# Altium schematic symbol library MCU_Microchip_SAML.SchLib: 20 symbols
Pins are listed as number, name and electrical type; pins without a type are passive.

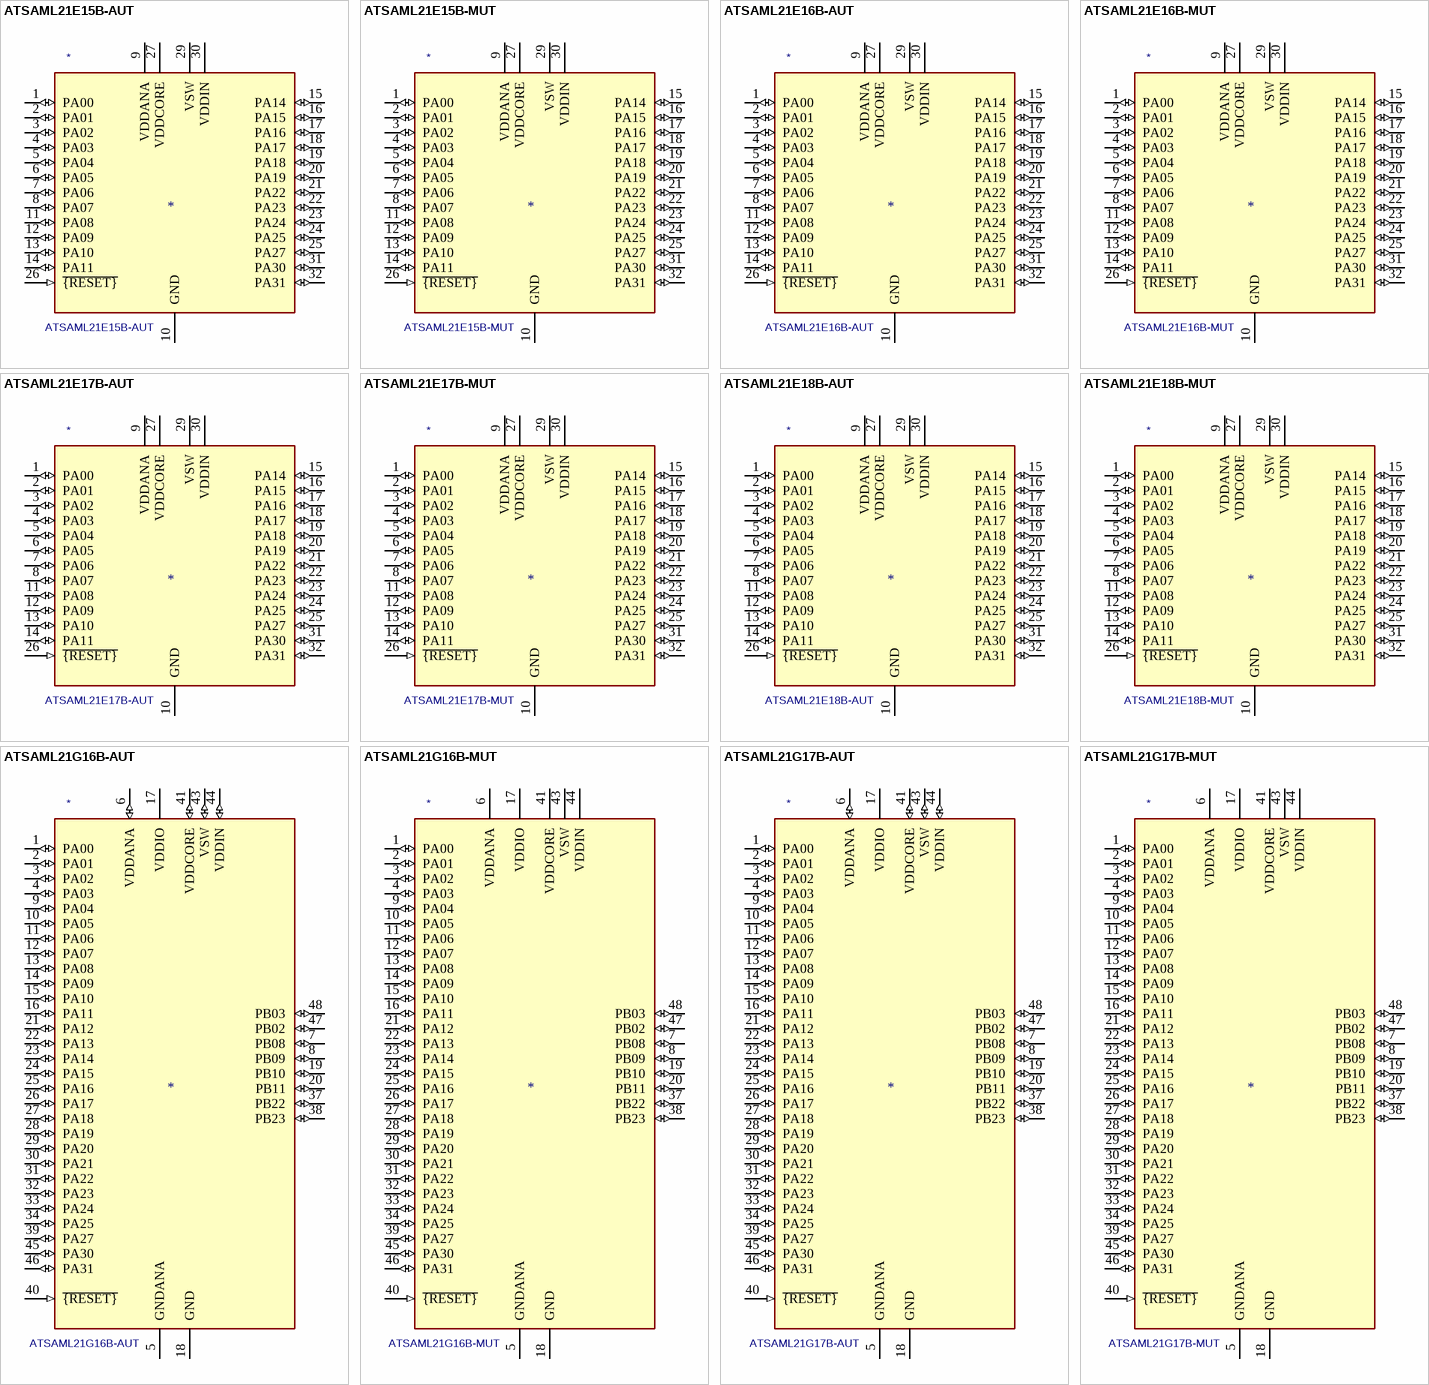
[diagram p0: symbols ATSAML21E15B-AUT to ATSAML21G17B-MUT]

## ATSAML21E15B-AUT
designator *  value ATSAML21E15B-AUT
ki_keywords: 32-bit ARM Cortex-M0+ MCU Microcontroller; ki_description: SAM L21 Microchip SMART ARM-based Flash MCU, 48Mhz, 32K Flash, 4K SRAM, TQFP32; ki_fp_filters: TQFP*7x7mm*P0.8mm*; Footprint: Package_QFP:TQFP-32_7x7mm_P0.8mm; Supplier: http://ww1.microchip.com/downloads/en/DeviceDoc/60001477A.pdf
footprint TQFP-32_7x7mm_P0.8mm
pins: 1 PA00 (io), 2 PA01 (io), 3 PA02 (io), 4 PA03 (io), 5 PA04 (io), 6 PA05 (io), 7 PA06 (io), 8 PA07 (io), 9 VDDANA (power), 10 GND (power), 11 PA08 (io), 12 PA09 (io), 13 PA10 (io), 14 PA11 (io), 15 PA14 (io), 16 PA15 (io), 17 PA16 (io), 18 PA17 (io), 19 PA18 (io), 20 PA19 (io), 21 PA22 (io), 22 PA23 (io), 23 PA24 (io), 24 PA25 (io), 25 PA27 (io), 26 ~{{RESET}} (in), 27 VDDCORE (power), 28 GND hidden, 29 VSW (power), 30 VDDIN (power), 31 PA30 (io), 32 PA31 (io)

## ATSAML21E15B-MUT
designator *  value ATSAML21E15B-MUT
ki_keywords: 32-bit ARM Cortex-M0+ MCU Microcontroller; ki_description: SAM L21 Microchip SMART ARM-based Flash MCU, 48Mhz, 32K Flash, 4K SRAM, QFN32; ki_fp_filters: QFN*1EP*5x5mm*P0.5mm*; Footprint: Package_DFN_QFN:QFN-32-1EP_5x5mm_P0.5mm_EP3.45x3.45mm; Supplier: http://ww1.microchip.com/downloads/en/DeviceDoc/60001477A.pdf
footprint QFN-32-1EP_5x5mm_P0.5mm_EP3.45x3.45mm
pins: 1 PA00 (io), 2 PA01 (io), 3 PA02 (io), 4 PA03 (io), 5 PA04 (io), 6 PA05 (io), 7 PA06 (io), 8 PA07 (io), 9 VDDANA (power), 10 GND (power), 11 PA08 (io), 12 PA09 (io), 13 PA10 (io), 14 PA11 (io), 15 PA14 (io), 16 PA15 (io), 17 PA16 (io), 18 PA17 (io), 19 PA18 (io), 20 PA19 (io), 21 PA22 (io), 22 PA23 (io), 23 PA24 (io), 24 PA25 (io), 25 PA27 (io), 26 ~{{RESET}} (in), 27 VDDCORE (power), 28 GND hidden, 29 VSW (power), 30 VDDIN (power), 31 PA30 (io), 32 PA31 (io)

## ATSAML21E16B-AUT
designator *  value ATSAML21E16B-AUT
ki_keywords: 32-bit ARM Cortex-M0+ MCU Microcontroller; ki_description: SAM L21 Microchip SMART ARM-based Flash MCU, 48Mhz, 64K Flash, 8K SRAM, TQFP32; ki_fp_filters: TQFP*7x7mm*P0.8mm*; Footprint: Package_QFP:TQFP-32_7x7mm_P0.8mm; Supplier: http://ww1.microchip.com/downloads/en/DeviceDoc/60001477A.pdf
footprint TQFP-32_7x7mm_P0.8mm
pins: 1 PA00 (io), 2 PA01 (io), 3 PA02 (io), 4 PA03 (io), 5 PA04 (io), 6 PA05 (io), 7 PA06 (io), 8 PA07 (io), 9 VDDANA (power), 10 GND (power), 11 PA08 (io), 12 PA09 (io), 13 PA10 (io), 14 PA11 (io), 15 PA14 (io), 16 PA15 (io), 17 PA16 (io), 18 PA17 (io), 19 PA18 (io), 20 PA19 (io), 21 PA22 (io), 22 PA23 (io), 23 PA24 (io), 24 PA25 (io), 25 PA27 (io), 26 ~{{RESET}} (in), 27 VDDCORE (power), 28 GND hidden, 29 VSW (power), 30 VDDIN (power), 31 PA30 (io), 32 PA31 (io)

## ATSAML21E16B-MUT
designator *  value ATSAML21E16B-MUT
ki_keywords: 32-bit ARM Cortex-M0+ MCU Microcontroller; ki_description: SAM L21 Microchip SMART ARM-based Flash MCU, 48Mhz, 64K Flash, 8K SRAM, QFN32; ki_fp_filters: QFN*1EP*5x5mm*P0.5mm*; Footprint: Package_DFN_QFN:QFN-32-1EP_5x5mm_P0.5mm_EP3.45x3.45mm; Supplier: http://ww1.microchip.com/downloads/en/DeviceDoc/60001477A.pdf
footprint QFN-32-1EP_5x5mm_P0.5mm_EP3.45x3.45mm
pins: 1 PA00 (io), 2 PA01 (io), 3 PA02 (io), 4 PA03 (io), 5 PA04 (io), 6 PA05 (io), 7 PA06 (io), 8 PA07 (io), 9 VDDANA (power), 10 GND (power), 11 PA08 (io), 12 PA09 (io), 13 PA10 (io), 14 PA11 (io), 15 PA14 (io), 16 PA15 (io), 17 PA16 (io), 18 PA17 (io), 19 PA18 (io), 20 PA19 (io), 21 PA22 (io), 22 PA23 (io), 23 PA24 (io), 24 PA25 (io), 25 PA27 (io), 26 ~{{RESET}} (in), 27 VDDCORE (power), 28 GND hidden, 29 VSW (power), 30 VDDIN (power), 31 PA30 (io), 32 PA31 (io)

## ATSAML21E17B-AUT
designator *  value ATSAML21E17B-AUT
ki_keywords: 32-bit ARM Cortex-M0+ MCU Microcontroller; ki_description: SAM L21 Microchip SMART ARM-based Flash MCU, 48Mhz, 128K Flash, 16K SRAM, TQFP32; ki_fp_filters: TQFP*7x7mm*P0.8mm*; Footprint: Package_QFP:TQFP-32_7x7mm_P0.8mm; Supplier: http://ww1.microchip.com/downloads/en/DeviceDoc/60001477A.pdf
footprint TQFP-32_7x7mm_P0.8mm
pins: 1 PA00 (io), 2 PA01 (io), 3 PA02 (io), 4 PA03 (io), 5 PA04 (io), 6 PA05 (io), 7 PA06 (io), 8 PA07 (io), 9 VDDANA (power), 10 GND (power), 11 PA08 (io), 12 PA09 (io), 13 PA10 (io), 14 PA11 (io), 15 PA14 (io), 16 PA15 (io), 17 PA16 (io), 18 PA17 (io), 19 PA18 (io), 20 PA19 (io), 21 PA22 (io), 22 PA23 (io), 23 PA24 (io), 24 PA25 (io), 25 PA27 (io), 26 ~{{RESET}} (in), 27 VDDCORE (power), 28 GND hidden, 29 VSW (power), 30 VDDIN (power), 31 PA30 (io), 32 PA31 (io)

## ATSAML21E17B-MUT
designator *  value ATSAML21E17B-MUT
ki_keywords: 32-bit ARM Cortex-M0+ MCU Microcontroller; ki_description: SAM L21 Microchip SMART ARM-based Flash MCU, 48Mhz, 128K Flash, 16K SRAM, QFN32; ki_fp_filters: QFN*1EP*5x5mm*P0.5mm*; Footprint: Package_DFN_QFN:QFN-32-1EP_5x5mm_P0.5mm_EP3.45x3.45mm; Supplier: http://ww1.microchip.com/downloads/en/DeviceDoc/60001477A.pdf
footprint QFN-32-1EP_5x5mm_P0.5mm_EP3.45x3.45mm
pins: 1 PA00 (io), 2 PA01 (io), 3 PA02 (io), 4 PA03 (io), 5 PA04 (io), 6 PA05 (io), 7 PA06 (io), 8 PA07 (io), 9 VDDANA (power), 10 GND (power), 11 PA08 (io), 12 PA09 (io), 13 PA10 (io), 14 PA11 (io), 15 PA14 (io), 16 PA15 (io), 17 PA16 (io), 18 PA17 (io), 19 PA18 (io), 20 PA19 (io), 21 PA22 (io), 22 PA23 (io), 23 PA24 (io), 24 PA25 (io), 25 PA27 (io), 26 ~{{RESET}} (in), 27 VDDCORE (power), 28 GND hidden, 29 VSW (power), 30 VDDIN (power), 31 PA30 (io), 32 PA31 (io)

## ATSAML21E18B-AUT
designator *  value ATSAML21E18B-AUT
ki_keywords: 32-bit ARM Cortex-M0+ MCU Microcontroller; ki_description: SAM L21 Microchip SMART ARM-based Flash MCU, 48Mhz, 256K Flash, 32K SRAM, TQFP32; ki_fp_filters: TQFP*7x7mm*P0.8mm*; Footprint: Package_QFP:TQFP-32_7x7mm_P0.8mm; Supplier: http://ww1.microchip.com/downloads/en/DeviceDoc/60001477A.pdf
footprint TQFP-32_7x7mm_P0.8mm
pins: 1 PA00 (io), 2 PA01 (io), 3 PA02 (io), 4 PA03 (io), 5 PA04 (io), 6 PA05 (io), 7 PA06 (io), 8 PA07 (io), 9 VDDANA (power), 10 GND (power), 11 PA08 (io), 12 PA09 (io), 13 PA10 (io), 14 PA11 (io), 15 PA14 (io), 16 PA15 (io), 17 PA16 (io), 18 PA17 (io), 19 PA18 (io), 20 PA19 (io), 21 PA22 (io), 22 PA23 (io), 23 PA24 (io), 24 PA25 (io), 25 PA27 (io), 26 ~{{RESET}} (in), 27 VDDCORE (power), 28 GND hidden, 29 VSW (power), 30 VDDIN (power), 31 PA30 (io), 32 PA31 (io)

## ATSAML21E18B-MUT
designator *  value ATSAML21E18B-MUT
ki_keywords: 32-bit ARM Cortex-M0+ MCU Microcontroller; ki_description: SAM L21 Microchip SMART ARM-based Flash MCU, 48Mhz, 256K Flash, 32K SRAM, QFN32; ki_fp_filters: QFN*1EP*5x5mm*P0.5mm*; Footprint: Package_DFN_QFN:QFN-32-1EP_5x5mm_P0.5mm_EP3.45x3.45mm; Supplier: http://ww1.microchip.com/downloads/en/DeviceDoc/60001477A.pdf
footprint QFN-32-1EP_5x5mm_P0.5mm_EP3.45x3.45mm
pins: 1 PA00 (io), 2 PA01 (io), 3 PA02 (io), 4 PA03 (io), 5 PA04 (io), 6 PA05 (io), 7 PA06 (io), 8 PA07 (io), 9 VDDANA (power), 10 GND (power), 11 PA08 (io), 12 PA09 (io), 13 PA10 (io), 14 PA11 (io), 15 PA14 (io), 16 PA15 (io), 17 PA16 (io), 18 PA17 (io), 19 PA18 (io), 20 PA19 (io), 21 PA22 (io), 22 PA23 (io), 23 PA24 (io), 24 PA25 (io), 25 PA27 (io), 26 ~{{RESET}} (in), 27 VDDCORE (power), 28 GND hidden, 29 VSW (power), 30 VDDIN (power), 31 PA30 (io), 32 PA31 (io)

## ATSAML21G16B-AUT
designator *  value ATSAML21G16B-AUT
ki_keywords: 32-bit ARM Cortex-M0+ MCU Microcontroller; ki_description: SAM L21 Microchip SMART ARM-based Flash MCU, 48Mhz, 64K Flash, 8K SRAM, TQFP48; ki_fp_filters: TQFP*7x7mm*P0.5mm*; Footprint: Package_QFP:TQFP-48_7x7mm_P0.5mm; Supplier: http://ww1.microchip.com/downloads/en/DeviceDoc/60001477A.pdf
footprint TQFP-48_7x7mm_P0.5mm
pins: 1 PA00 (io), 2 PA01 (io), 3 PA02 (io), 4 PA03 (io), 5 GNDANA (power), 6 VDDANA (io), 7 PB08 (io), 8 PB09 (io), 9 PA04 (io), 10 PA05 (io), 11 PA06 (io), 12 PA07 (io), 13 PA08 (io), 14 PA09 (io), 15 PA10 (io), 16 PA11 (io), 17 VDDIO (power), 18 GND (power), 19 PB10 (io), 20 PB11 (io), 21 PA12 (io), 22 PA13 (io), 23 PA14 (io), 24 PA15 (io), 25 PA16 (io), 26 PA17 (io), 27 PA18 (io), 28 PA19 (io), 29 PA20 (io), 30 PA21 (io), 31 PA22 (io), 32 PA23 (io), 33 PA24 (io), 34 PA25 (io), 35 GND hidden, 36 VDDIO hidden, 37 PB22 (io), 38 PB23 (io), 39 PA27 (io), 40 ~{{RESET}} (in), 41 VDDCORE (io), 42 GND hidden, 43 VSW (io), 44 VDDIN (io), 45 PA30 (io), 46 PA31 (io), 47 PB02 (io), 48 PB03 (io)

## ATSAML21G16B-MUT
designator *  value ATSAML21G16B-MUT
ki_keywords: 32-bit ARM Cortex-M0+ MCU Microcontroller; ki_description: SAM L21 Microchip SMART ARM-based Flash MCU, 48Mhz, 64K Flash, 8K SRAM, QFN48; ki_fp_filters: QFN*1EP*7x7mm*P0.5mm*; Footprint: Package_DFN_QFN:QFN-48-1EP_7x7mm_P0.5mm_EP5.15x5.15mm; Supplier: http://ww1.microchip.com/downloads/en/DeviceDoc/60001477A.pdf
footprint QFN-48-1EP_7x7mm_P0.5mm_EP5.15x5.15mm
pins: 1 PA00 (io), 2 PA01 (io), 3 PA02 (io), 4 PA03 (io), 5 GNDANA (power), 6 VDDANA (power), 7 PB08 (io), 8 PB09 (io), 9 PA04 (io), 10 PA05 (io), 11 PA06 (io), 12 PA07 (io), 13 PA08 (io), 14 PA09 (io), 15 PA10 (io), 16 PA11 (io), 17 VDDIO (power), 18 GND (power), 19 PB10 (io), 20 PB11 (io), 21 PA12 (io), 22 PA13 (io), 23 PA14 (io), 24 PA15 (io), 25 PA16 (io), 26 PA17 (io), 27 PA18 (io), 28 PA19 (io), 29 PA20 (io), 30 PA21 (io), 31 PA22 (io), 32 PA23 (io), 33 PA24 (io), 34 PA25 (io), 35 GND hidden, 36 VDDIO hidden, 37 PB22 (io), 38 PB23 (io), 39 PA27 (io), 40 ~{{RESET}} (in), 41 VDDCORE (power), 42 GND hidden, 43 VSW (power), 44 VDDIN (power), 45 PA30 (io), 46 PA31 (io), 47 PB02 (io), 48 PB03 (io)

## ATSAML21G17B-AUT
designator *  value ATSAML21G17B-AUT
ki_keywords: 32-bit ARM Cortex-M0+ MCU Microcontroller; ki_description: SAM L21 Microchip SMART ARM-based Flash MCU, 48Mhz, 128K Flash, 16K SRAM, TQFP48; ki_fp_filters: TQFP*7x7mm*P0.5mm*; Footprint: Package_QFP:TQFP-48_7x7mm_P0.5mm; Supplier: http://ww1.microchip.com/downloads/en/DeviceDoc/60001477A.pdf
footprint TQFP-48_7x7mm_P0.5mm
pins: 1 PA00 (io), 2 PA01 (io), 3 PA02 (io), 4 PA03 (io), 5 GNDANA (power), 6 VDDANA (io), 7 PB08 (io), 8 PB09 (io), 9 PA04 (io), 10 PA05 (io), 11 PA06 (io), 12 PA07 (io), 13 PA08 (io), 14 PA09 (io), 15 PA10 (io), 16 PA11 (io), 17 VDDIO (power), 18 GND (power), 19 PB10 (io), 20 PB11 (io), 21 PA12 (io), 22 PA13 (io), 23 PA14 (io), 24 PA15 (io), 25 PA16 (io), 26 PA17 (io), 27 PA18 (io), 28 PA19 (io), 29 PA20 (io), 30 PA21 (io), 31 PA22 (io), 32 PA23 (io), 33 PA24 (io), 34 PA25 (io), 35 GND hidden, 36 VDDIO hidden, 37 PB22 (io), 38 PB23 (io), 39 PA27 (io), 40 ~{{RESET}} (in), 41 VDDCORE (io), 42 GND hidden, 43 VSW (io), 44 VDDIN (io), 45 PA30 (io), 46 PA31 (io), 47 PB02 (io), 48 PB03 (io)

## ATSAML21G17B-MUT
designator *  value ATSAML21G17B-MUT
ki_keywords: 32-bit ARM Cortex-M0+ MCU Microcontroller; ki_description: SAM L21 Microchip SMART ARM-based Flash MCU, 48Mhz, 128K Flash, 16K SRAM, QFN48; ki_fp_filters: QFN*1EP*7x7mm*P0.5mm*; Footprint: Package_DFN_QFN:QFN-48-1EP_7x7mm_P0.5mm_EP5.15x5.15mm; Supplier: http://ww1.microchip.com/downloads/en/DeviceDoc/60001477A.pdf
footprint QFN-48-1EP_7x7mm_P0.5mm_EP5.15x5.15mm
pins: 1 PA00 (io), 2 PA01 (io), 3 PA02 (io), 4 PA03 (io), 5 GNDANA (power), 6 VDDANA (power), 7 PB08 (io), 8 PB09 (io), 9 PA04 (io), 10 PA05 (io), 11 PA06 (io), 12 PA07 (io), 13 PA08 (io), 14 PA09 (io), 15 PA10 (io), 16 PA11 (io), 17 VDDIO (power), 18 GND (power), 19 PB10 (io), 20 PB11 (io), 21 PA12 (io), 22 PA13 (io), 23 PA14 (io), 24 PA15 (io), 25 PA16 (io), 26 PA17 (io), 27 PA18 (io), 28 PA19 (io), 29 PA20 (io), 30 PA21 (io), 31 PA22 (io), 32 PA23 (io), 33 PA24 (io), 34 PA25 (io), 35 GND hidden, 36 VDDIO hidden, 37 PB22 (io), 38 PB23 (io), 39 PA27 (io), 40 ~{{RESET}} (in), 41 VDDCORE (power), 42 GND hidden, 43 VSW (power), 44 VDDIN (power), 45 PA30 (io), 46 PA31 (io), 47 PB02 (io), 48 PB03 (io)

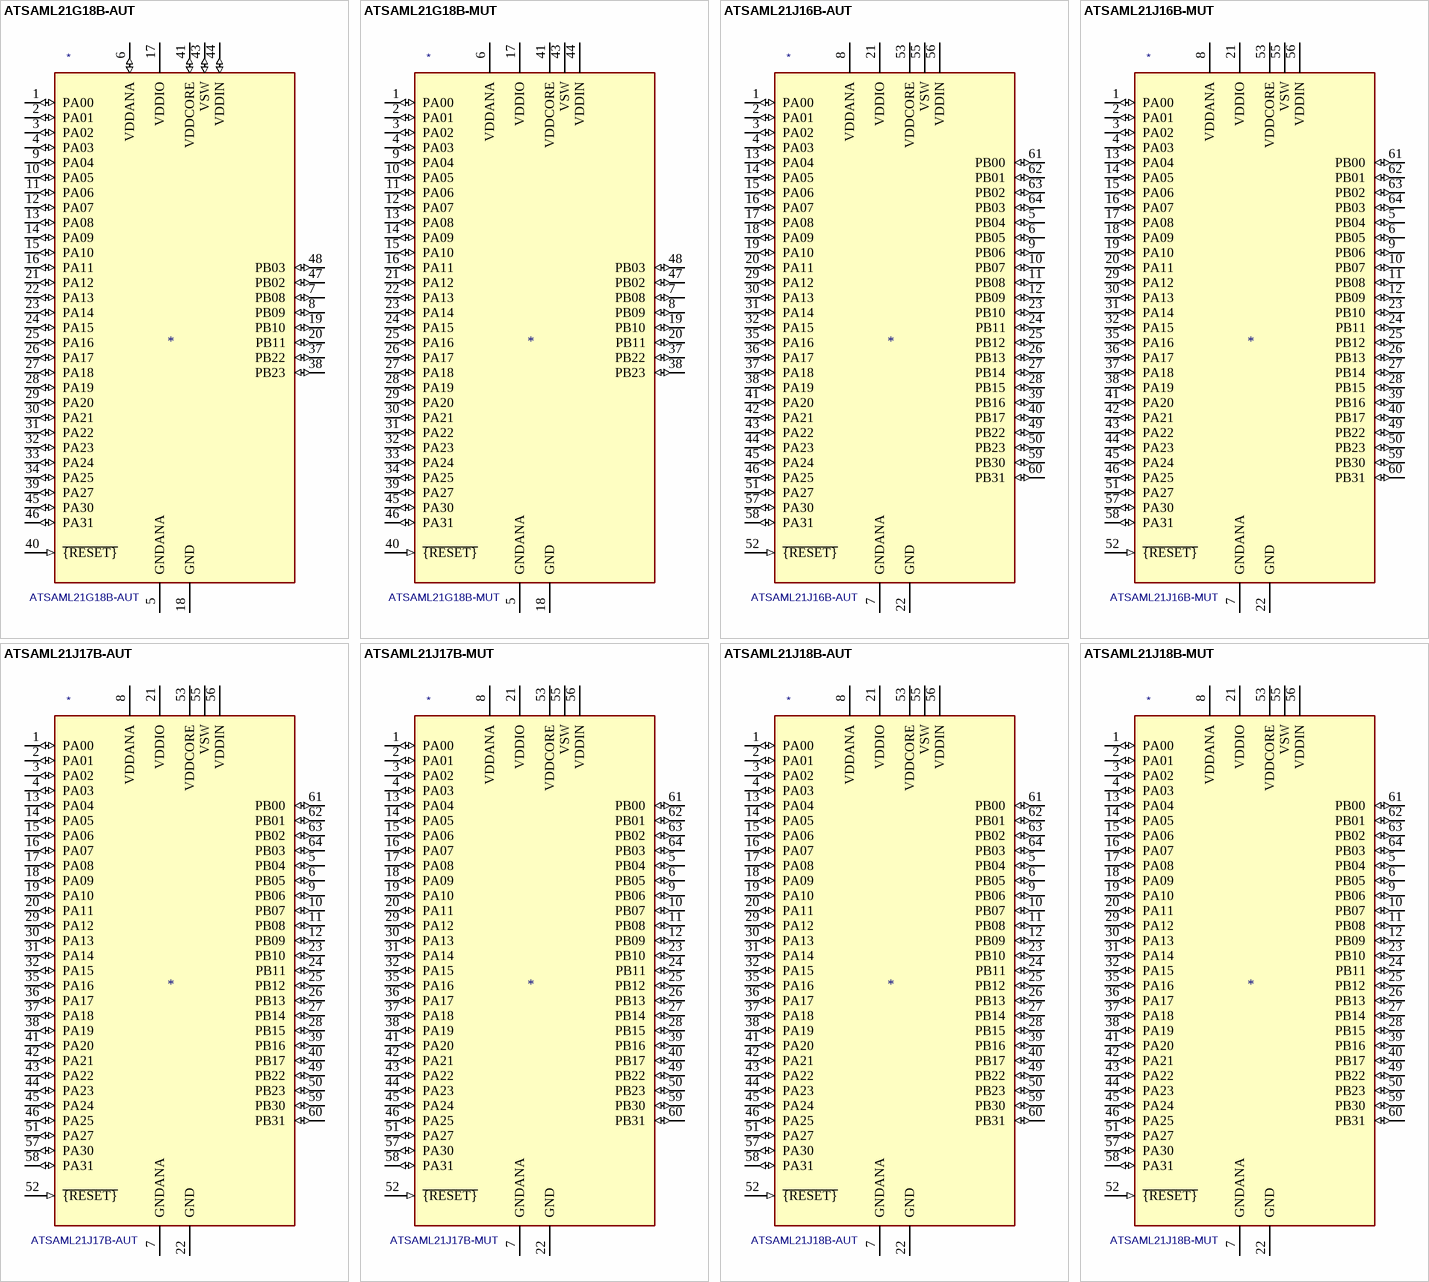
[diagram p1: symbols ATSAML21G18B-AUT to ATSAML21J18B-MUT]

## ATSAML21G18B-AUT
designator *  value ATSAML21G18B-AUT
ki_keywords: 32-bit ARM Cortex-M0+ MCU Microcontroller; ki_description: SAM L21 Microchip SMART ARM-based Flash MCU, 48Mhz, 256K Flash, 32K SRAM, TQFP48; ki_fp_filters: TQFP*7x7mm*P0.5mm*; Footprint: Package_QFP:TQFP-48_7x7mm_P0.5mm; Supplier: http://ww1.microchip.com/downloads/en/DeviceDoc/60001477A.pdf
footprint TQFP-48_7x7mm_P0.5mm
pins: 1 PA00 (io), 2 PA01 (io), 3 PA02 (io), 4 PA03 (io), 5 GNDANA (power), 6 VDDANA (io), 7 PB08 (io), 8 PB09 (io), 9 PA04 (io), 10 PA05 (io), 11 PA06 (io), 12 PA07 (io), 13 PA08 (io), 14 PA09 (io), 15 PA10 (io), 16 PA11 (io), 17 VDDIO (power), 18 GND (power), 19 PB10 (io), 20 PB11 (io), 21 PA12 (io), 22 PA13 (io), 23 PA14 (io), 24 PA15 (io), 25 PA16 (io), 26 PA17 (io), 27 PA18 (io), 28 PA19 (io), 29 PA20 (io), 30 PA21 (io), 31 PA22 (io), 32 PA23 (io), 33 PA24 (io), 34 PA25 (io), 35 GND hidden, 36 VDDIO hidden, 37 PB22 (io), 38 PB23 (io), 39 PA27 (io), 40 ~{{RESET}} (in), 41 VDDCORE (io), 42 GND hidden, 43 VSW (io), 44 VDDIN (io), 45 PA30 (io), 46 PA31 (io), 47 PB02 (io), 48 PB03 (io)

## ATSAML21G18B-MUT
designator *  value ATSAML21G18B-MUT
ki_keywords: 32-bit ARM Cortex-M0+ MCU Microcontroller; ki_description: SAM L21 Microchip SMART ARM-based Flash MCU, 48Mhz, 256K Flash, 32K SRAM, QFN48; ki_fp_filters: QFN*1EP*7x7mm*P0.5mm*; Footprint: Package_DFN_QFN:QFN-48-1EP_7x7mm_P0.5mm_EP5.15x5.15mm; Supplier: http://ww1.microchip.com/downloads/en/DeviceDoc/60001477A.pdf
footprint QFN-48-1EP_7x7mm_P0.5mm_EP5.15x5.15mm
pins: 1 PA00 (io), 2 PA01 (io), 3 PA02 (io), 4 PA03 (io), 5 GNDANA (power), 6 VDDANA (power), 7 PB08 (io), 8 PB09 (io), 9 PA04 (io), 10 PA05 (io), 11 PA06 (io), 12 PA07 (io), 13 PA08 (io), 14 PA09 (io), 15 PA10 (io), 16 PA11 (io), 17 VDDIO (power), 18 GND (power), 19 PB10 (io), 20 PB11 (io), 21 PA12 (io), 22 PA13 (io), 23 PA14 (io), 24 PA15 (io), 25 PA16 (io), 26 PA17 (io), 27 PA18 (io), 28 PA19 (io), 29 PA20 (io), 30 PA21 (io), 31 PA22 (io), 32 PA23 (io), 33 PA24 (io), 34 PA25 (io), 35 GND hidden, 36 VDDIO hidden, 37 PB22 (io), 38 PB23 (io), 39 PA27 (io), 40 ~{{RESET}} (in), 41 VDDCORE (power), 42 GND hidden, 43 VSW (power), 44 VDDIN (power), 45 PA30 (io), 46 PA31 (io), 47 PB02 (io), 48 PB03 (io)

## ATSAML21J16B-AUT
designator *  value ATSAML21J16B-AUT
ki_keywords: 32-bit ARM Cortex-M0+ MCU Microcontroller; ki_description: SAM L21 Microchip SMART ARM-based Flash MCU, 48Mhz, 64K Flash, 8K SRAM, TQFP64; ki_fp_filters: TQFP*64*10x10mm*P0.5mm*; Footprint: Package_QFP:TQFP-64_10x10mm_P0.5mm; Supplier: http://ww1.microchip.com/downloads/en/DeviceDoc/60001477A.pdf
footprint TQFP-64_10x10mm_P0.5mm
pins: 1 PA00 (io), 2 PA01 (io), 3 PA02 (io), 4 PA03 (io), 5 PB04 (io), 6 PB05 (io), 7 GNDANA (power), 8 VDDANA (power), 9 PB06 (io), 10 PB07 (io), 11 PB08 (io), 12 PB09 (io), 13 PA04 (io), 14 PA05 (io), 15 PA06 (io), 16 PA07 (io), 17 PA08 (io), 18 PA09 (io), 19 PA10 (io), 20 PA11 (io), 21 VDDIO (power), 22 GND (power), 23 PB10 (io), 24 PB11 (io), 25 PB12 (io), 26 PB13 (io), 27 PB14 (io), 28 PB15 (io), 29 PA12 (io), 30 PA13 (io), 31 PA14 (io), 32 PA15 (io), 33 GND hidden, 34 VDDIO hidden, 35 PA16 (io), 36 PA17 (io), 37 PA18 (io), 38 PA19 (io), 39 PB16 (io), 40 PB17 (io), 41 PA20 (io), 42 PA21 (io), 43 PA22 (io), 44 PA23 (io), 45 PA24 (io), 46 PA25 (io), 47 GND hidden, 48 VDDIO hidden, 49 PB22 (io), 50 PB23 (io), 51 PA27 (io), 52 ~{{RESET}} (in), 53 VDDCORE (power), 54 GND hidden, 55 VSW (power), 56 VDDIN (power), 57 PA30 (io), 58 PA31 (io), 59 PB30 (io), 60 PB31 (io), 61 PB00 (io), 62 PB01 (io), 63 PB02 (io), 64 PB03 (io)

## ATSAML21J16B-MUT
designator *  value ATSAML21J16B-MUT
ki_keywords: 32-bit ARM Cortex-M0+ MCU Microcontroller; ki_description: SAM L21 Microchip SMART ARM-based Flash MCU, 48Mhz, 64K Flash, 8K SRAM, QFN64; ki_fp_filters: QFN*1EP*9x9mm*P0.5mm*; Footprint: Package_DFN_QFN:QFN-64-1EP_9x9mm_P0.5mm_EP4.7x4.7mm; Supplier: http://ww1.microchip.com/downloads/en/DeviceDoc/60001477A.pdf
footprint QFN-64-1EP_9x9mm_P0.5mm_EP4.7x4.7mm
pins: 1 PA00 (io), 2 PA01 (io), 3 PA02 (io), 4 PA03 (io), 5 PB04 (io), 6 PB05 (io), 7 GNDANA (power), 8 VDDANA (power), 9 PB06 (io), 10 PB07 (io), 11 PB08 (io), 12 PB09 (io), 13 PA04 (io), 14 PA05 (io), 15 PA06 (io), 16 PA07 (io), 17 PA08 (io), 18 PA09 (io), 19 PA10 (io), 20 PA11 (io), 21 VDDIO (power), 22 GND (power), 23 PB10 (io), 24 PB11 (io), 25 PB12 (io), 26 PB13 (io), 27 PB14 (io), 28 PB15 (io), 29 PA12 (io), 30 PA13 (io), 31 PA14 (io), 32 PA15 (io), 33 GND hidden, 34 VDDIO hidden, 35 PA16 (io), 36 PA17 (io), 37 PA18 (io), 38 PA19 (io), 39 PB16 (io), 40 PB17 (io), 41 PA20 (io), 42 PA21 (io), 43 PA22 (io), 44 PA23 (io), 45 PA24 (io), 46 PA25 (io), 47 GND hidden, 48 VDDIO hidden, 49 PB22 (io), 50 PB23 (io), 51 PA27 (io), 52 ~{{RESET}} (in), 53 VDDCORE (power), 54 GND hidden, 55 VSW (power), 56 VDDIN (power), 57 PA30 (io), 58 PA31 (io), 59 PB30 (io), 60 PB31 (io), 61 PB00 (io), 62 PB01 (io), 63 PB02 (io), 64 PB03 (io)

## ATSAML21J17B-AUT
designator *  value ATSAML21J17B-AUT
ki_keywords: 32-bit ARM Cortex-M0+ MCU Microcontroller; ki_description: SAM L21 Microchip SMART ARM-based Flash MCU, 48Mhz, 128K Flash, 16K SRAM, TQFP64; ki_fp_filters: TQFP*64*10x10mm*P0.5mm*; Footprint: Package_QFP:TQFP-64_10x10mm_P0.5mm; Supplier: http://ww1.microchip.com/downloads/en/DeviceDoc/60001477A.pdf
footprint TQFP-64_10x10mm_P0.5mm
pins: 1 PA00 (io), 2 PA01 (io), 3 PA02 (io), 4 PA03 (io), 5 PB04 (io), 6 PB05 (io), 7 GNDANA (power), 8 VDDANA (power), 9 PB06 (io), 10 PB07 (io), 11 PB08 (io), 12 PB09 (io), 13 PA04 (io), 14 PA05 (io), 15 PA06 (io), 16 PA07 (io), 17 PA08 (io), 18 PA09 (io), 19 PA10 (io), 20 PA11 (io), 21 VDDIO (power), 22 GND (power), 23 PB10 (io), 24 PB11 (io), 25 PB12 (io), 26 PB13 (io), 27 PB14 (io), 28 PB15 (io), 29 PA12 (io), 30 PA13 (io), 31 PA14 (io), 32 PA15 (io), 33 GND hidden, 34 VDDIO hidden, 35 PA16 (io), 36 PA17 (io), 37 PA18 (io), 38 PA19 (io), 39 PB16 (io), 40 PB17 (io), 41 PA20 (io), 42 PA21 (io), 43 PA22 (io), 44 PA23 (io), 45 PA24 (io), 46 PA25 (io), 47 GND hidden, 48 VDDIO hidden, 49 PB22 (io), 50 PB23 (io), 51 PA27 (io), 52 ~{{RESET}} (in), 53 VDDCORE (power), 54 GND hidden, 55 VSW (power), 56 VDDIN (power), 57 PA30 (io), 58 PA31 (io), 59 PB30 (io), 60 PB31 (io), 61 PB00 (io), 62 PB01 (io), 63 PB02 (io), 64 PB03 (io)

## ATSAML21J17B-MUT
designator *  value ATSAML21J17B-MUT
ki_keywords: 32-bit ARM Cortex-M0+ MCU Microcontroller; ki_description: SAM L21 Microchip SMART ARM-based Flash MCU, 48Mhz, 64K Flash, 8K SRAM, QFN64; ki_fp_filters: QFN*1EP*9x9mm*P0.5mm*; Footprint: Package_DFN_QFN:QFN-64-1EP_9x9mm_P0.5mm_EP4.7x4.7mm; Supplier: http://ww1.microchip.com/downloads/en/DeviceDoc/60001477A.pdf
footprint QFN-64-1EP_9x9mm_P0.5mm_EP4.7x4.7mm
pins: 1 PA00 (io), 2 PA01 (io), 3 PA02 (io), 4 PA03 (io), 5 PB04 (io), 6 PB05 (io), 7 GNDANA (power), 8 VDDANA (power), 9 PB06 (io), 10 PB07 (io), 11 PB08 (io), 12 PB09 (io), 13 PA04 (io), 14 PA05 (io), 15 PA06 (io), 16 PA07 (io), 17 PA08 (io), 18 PA09 (io), 19 PA10 (io), 20 PA11 (io), 21 VDDIO (power), 22 GND (power), 23 PB10 (io), 24 PB11 (io), 25 PB12 (io), 26 PB13 (io), 27 PB14 (io), 28 PB15 (io), 29 PA12 (io), 30 PA13 (io), 31 PA14 (io), 32 PA15 (io), 33 GND hidden, 34 VDDIO hidden, 35 PA16 (io), 36 PA17 (io), 37 PA18 (io), 38 PA19 (io), 39 PB16 (io), 40 PB17 (io), 41 PA20 (io), 42 PA21 (io), 43 PA22 (io), 44 PA23 (io), 45 PA24 (io), 46 PA25 (io), 47 GND hidden, 48 VDDIO hidden, 49 PB22 (io), 50 PB23 (io), 51 PA27 (io), 52 ~{{RESET}} (in), 53 VDDCORE (power), 54 GND hidden, 55 VSW (power), 56 VDDIN (power), 57 PA30 (io), 58 PA31 (io), 59 PB30 (io), 60 PB31 (io), 61 PB00 (io), 62 PB01 (io), 63 PB02 (io), 64 PB03 (io)

## ATSAML21J18B-AUT
designator *  value ATSAML21J18B-AUT
ki_keywords: 32-bit ARM Cortex-M0+ MCU Microcontroller; ki_description: SAM L21 Microchip SMART ARM-based Flash MCU, 48Mhz, 256K Flash, 32K SRAM, TQFP64; ki_fp_filters: TQFP*64*10x10mm*P0.5mm*; Footprint: Package_QFP:TQFP-64_10x10mm_P0.5mm; Supplier: http://ww1.microchip.com/downloads/en/DeviceDoc/60001477A.pdf
footprint TQFP-64_10x10mm_P0.5mm
pins: 1 PA00 (io), 2 PA01 (io), 3 PA02 (io), 4 PA03 (io), 5 PB04 (io), 6 PB05 (io), 7 GNDANA (power), 8 VDDANA (power), 9 PB06 (io), 10 PB07 (io), 11 PB08 (io), 12 PB09 (io), 13 PA04 (io), 14 PA05 (io), 15 PA06 (io), 16 PA07 (io), 17 PA08 (io), 18 PA09 (io), 19 PA10 (io), 20 PA11 (io), 21 VDDIO (power), 22 GND (power), 23 PB10 (io), 24 PB11 (io), 25 PB12 (io), 26 PB13 (io), 27 PB14 (io), 28 PB15 (io), 29 PA12 (io), 30 PA13 (io), 31 PA14 (io), 32 PA15 (io), 33 GND hidden, 34 VDDIO hidden, 35 PA16 (io), 36 PA17 (io), 37 PA18 (io), 38 PA19 (io), 39 PB16 (io), 40 PB17 (io), 41 PA20 (io), 42 PA21 (io), 43 PA22 (io), 44 PA23 (io), 45 PA24 (io), 46 PA25 (io), 47 GND hidden, 48 VDDIO hidden, 49 PB22 (io), 50 PB23 (io), 51 PA27 (io), 52 ~{{RESET}} (in), 53 VDDCORE (power), 54 GND hidden, 55 VSW (power), 56 VDDIN (power), 57 PA30 (io), 58 PA31 (io), 59 PB30 (io), 60 PB31 (io), 61 PB00 (io), 62 PB01 (io), 63 PB02 (io), 64 PB03 (io)

## ATSAML21J18B-MUT
designator *  value ATSAML21J18B-MUT
ki_keywords: 32-bit ARM Cortex-M0+ MCU Microcontroller; ki_description: SAM L21 Microchip SMART ARM-based Flash MCU, 48Mhz, 64K Flash, 8K SRAM, QFN64; ki_fp_filters: QFN*1EP*9x9mm*P0.5mm*; Footprint: Package_DFN_QFN:QFN-64-1EP_9x9mm_P0.5mm_EP4.7x4.7mm; Supplier: http://ww1.microchip.com/downloads/en/DeviceDoc/60001477A.pdf
footprint QFN-64-1EP_9x9mm_P0.5mm_EP4.7x4.7mm
pins: 1 PA00 (io), 2 PA01 (io), 3 PA02 (io), 4 PA03 (io), 5 PB04 (io), 6 PB05 (io), 7 GNDANA (power), 8 VDDANA (power), 9 PB06 (io), 10 PB07 (io), 11 PB08 (io), 12 PB09 (io), 13 PA04 (io), 14 PA05 (io), 15 PA06 (io), 16 PA07 (io), 17 PA08 (io), 18 PA09 (io), 19 PA10 (io), 20 PA11 (io), 21 VDDIO (power), 22 GND (power), 23 PB10 (io), 24 PB11 (io), 25 PB12 (io), 26 PB13 (io), 27 PB14 (io), 28 PB15 (io), 29 PA12 (io), 30 PA13 (io), 31 PA14 (io), 32 PA15 (io), 33 GND hidden, 34 VDDIO hidden, 35 PA16 (io), 36 PA17 (io), 37 PA18 (io), 38 PA19 (io), 39 PB16 (io), 40 PB17 (io), 41 PA20 (io), 42 PA21 (io), 43 PA22 (io), 44 PA23 (io), 45 PA24 (io), 46 PA25 (io), 47 GND hidden, 48 VDDIO hidden, 49 PB22 (io), 50 PB23 (io), 51 PA27 (io), 52 ~{{RESET}} (in), 53 VDDCORE (power), 54 GND hidden, 55 VSW (power), 56 VDDIN (power), 57 PA30 (io), 58 PA31 (io), 59 PB30 (io), 60 PB31 (io), 61 PB00 (io), 62 PB01 (io), 63 PB02 (io), 64 PB03 (io)